# Altium footprint library B3FS-1000.PcbLib: 1 footprints
Each footprint in its own frame and in the unit in brackets; x right, y up, seen from the top. Pads: shape width x height; smd on the part's side, far side on the other; paste and mask are expansions set on the pad; w line width, h text height; cw(c..) or ccw(c..) is an arc to the next point about the centre after c.
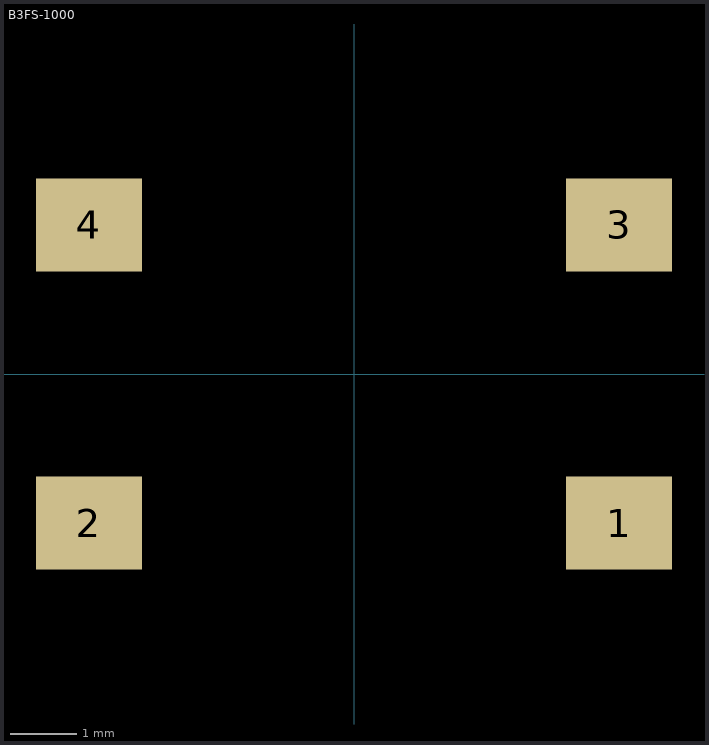
[diagram p0: the footprint, top view; thin cyan lines are the x and y axes]

## B3FS-1000 [mm] "Tactile Switch, Omron, SMD, B3FS Series"
pads (4):
  rect 1.6x1.4 smd: 1(4,-2.25) 2(-4,-2.25) 3(4,2.25) 4(-4,2.25)
3D body "B3FS_1000.SLDPRT": height 3, standoff -0.1, extent -4,-3.15 4,3.15